# EAGLE library part 105081-0001 (library con-molex)
RIGHT ANGLE MINI-DISPLAYPORT RECEPTACLE Source: http://www.molex.com/pdm_docs/sd/1050810001_sd.pdf
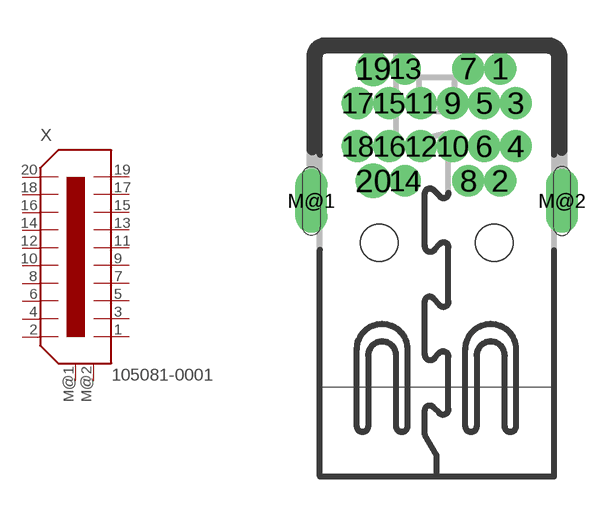
[diagram p224: symbol with the pads of 105081-0001; footprint 105081-0001]

Designator prefix X

## 105081-0001 (MPN: 105081-0001; OC_FARNELL: 1774561; OC_NEWARK: 04R6635)  [105081-0001]
1  1  pas
2  2  pas
3  3  pas
4  4  pas
5  5  pas
6  6  pas
7  7  pas
8  8  pas
9  9  pas
10  10  pas
11  11  pas
12  12  pas
13  13  pas
14  14  pas
15  15  pas
16  16  pas
17  17  pas
18  18  pas
19  19  pas
20  20  pas
M@1  M  in
M@2  M  in

## Footprint 105081-0001 (pad centres in mm)
RIGHT ANGLE MINI-DISPLAYPORT RECEPTACLE Source: http://www.molex.com/pdm_docs/sd/1050810001_sd.pdf
drill 0.6 pad 0.9: 1 2.2,11.05; 2 2.2,7.15; 3 2.75,9.85; 4 2.75,8.35; 5 1.65,9.85; 6 1.65,8.35; 7 1.1,11.05; 8 1.1,7.15; 9 0.55,9.85; 10 0.55,8.35; 11 -0.55,9.85; 12 -0.55,8.35; 13 -1.1,11.05; 14 -1.1,7.15; 15 -1.65,9.85; 16 -1.65,8.35; 17 -2.75,9.85; 18 -2.75,8.35
drill 0.7 pad 1: 19 -2.2,11.05; 20 -2.2,7.15
drill 0.6 pad 0.9 long: M@1 -4.35,6.45; M@2 4.35,6.45
hole 1.3 at -2,5
hole 1.3 at 2,5